# Altium integrated library PT19-21B_L41_TR8.IntLib: 1 symbol
Pins are listed as number, name and electrical type; pins without a type are passive.

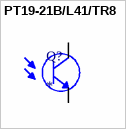
[diagram p0: symbol PT19-21B/L41/TR8]

## PT19-21B/L41/TR8
designator Q?
Phototransistors 940nm Top View 0603 (1608 Metric); MP: PT19-21B/L41/TR8; Package: None; Price: None; Value: *; Availability: Unavailable
footprint XDCR_PT19-21B/L41/TR8
pins: C, E